# Altium schematic symbol library Transistors.SchLib: 4 symbols
Pins are listed as number, name and electrical type; pins without a type are passive.

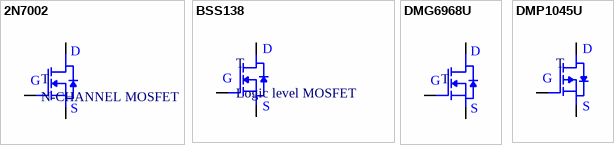
[diagram p0: symbols 2N7002 to DMP1045U]

## 2N7002
designator T, comment N-CHANNEL MOSFET
NMOS, 115mA, 2.1V
footprint 2N7002 (SOT23, 3-Leads, Body 2,92x2,40mm, Pitch 0,95mm, IPC Medium Density)
pins: 1 G, 2 S, 3 D

## BSS138
designator T, comment Logic level MOSFET
Logic level NMOS, 220mA, 1.3V
footprint BSS138 (SOT23, 3-Leads, Body 2,92x2,40mm, Pitch 0,95mm, IPC Medium Density)
pins: 1 G, 2 S, 3 D

## DMG6968U
designator T, comment NMOS  (value not drawn)
NMOS, 6.5A, 500mV
footprint DMG6968U (SOT23, 3-Leads, Body 2.85x2.35mm, Pitch 1.03mm, IPC Medium Density)
pins: 1 G, 2 S, 3 D

## DMP1045U
designator T  (value not drawn)
PMOS, 5.2A, -550mV
footprint DMP1045U (SOT23, 3-Leads, Body 2.85x2.35mm, Pitch 1.03mm, IPC Medium Density)
pins: 1 G, 2 S, 3 D